# Altium footprint library F4SDR.PcbLib: 69 footprints (part 1 of 5)
Each footprint in its own frame and in the unit in brackets; x right, y up, seen from the top. Pads: shape width x height; smd on the part's side, far side on the other; paste and mask are expansions set on the pad; w line width, h text height; cw(c..) or ccw(c..) is an arc to the next point about the centre after c.
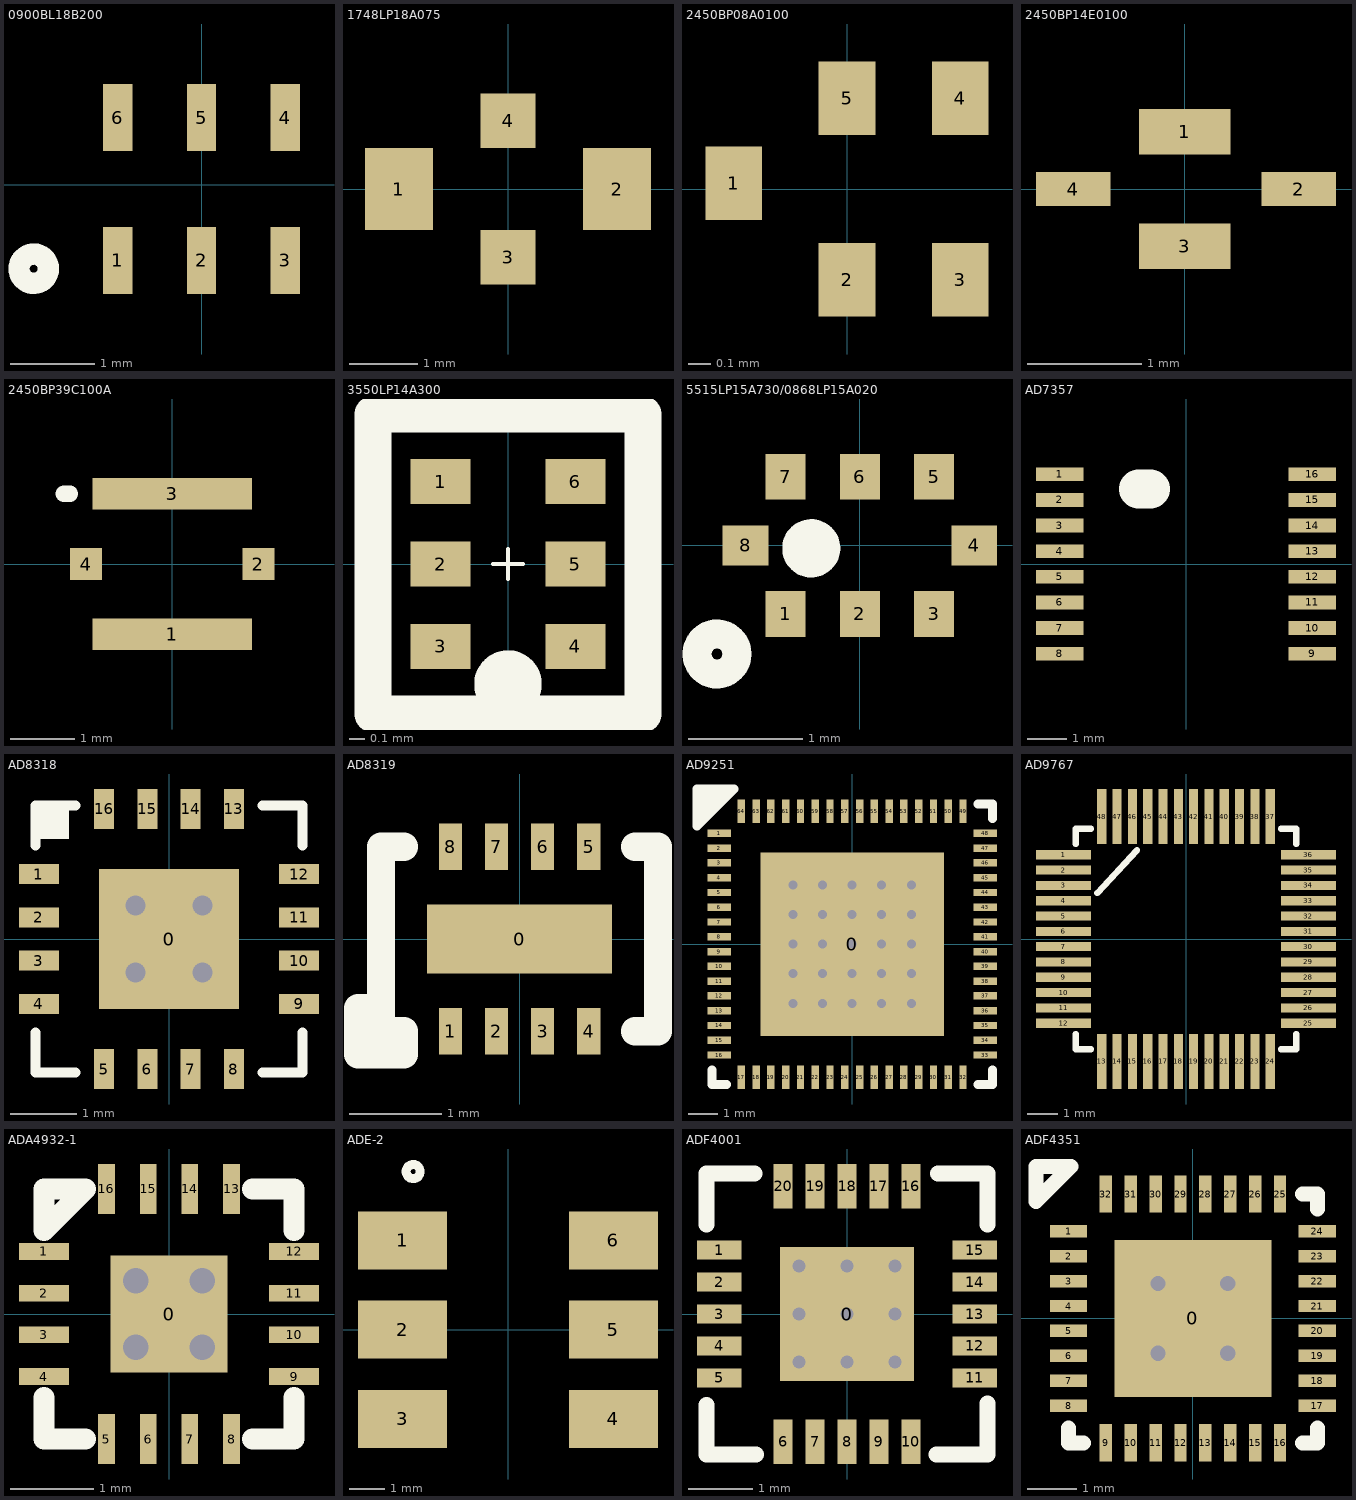
[diagram p0: the footprints below, top view; thin cyan lines are the x and y axes]

## 0900BL18B200 [mm]
pads (6):
  rect 0.35x0.8 smd: 1(-1,-0.9) 2(0,-0.9) 3(1,-0.9) 4(1,0.8) 5(0,0.8) 6(-1,0.8)
Top Overlay:
  circle w0.254: c-2,-1 r0.175
3D body: height 0.85, standoff 0, extent -1.6,-0.8 1.6,0.8

## 1748LP18A075 [mm]
pads (4):
  rect 1x1.2 smd: 1(-1.6,0) 2(1.6,0)
  rect 0.8x0.8 smd: 3(0,-1) 4(0,1)
3D body: height 1, standoff 0, extent -1.6,-0.8 1.6,0.8

## 2450BP08A0100 [mm]
pads (5):
  rect 0.25x0.325 smd: 1(-0.5,0.025) 2(0,-0.4) 3(0.5,-0.4) 4(0.5,0.4) 5(0,0.4)
3D body: height 0.5, standoff 0, extent -0.75,-0.55 0.75,0.55

## 2450BP14E0100 [mm]
pads (4):
  rect 0.8x0.4 smd: 1(0,0.5) 3(0,-0.5)
  rect 0.65x0.3 smd: 2(1,0) 4(-0.975,0)
3D body: height 0.6, standoff 0, extent -0.8,-0.4 0.8,0.4

## 2450BP39C100A [mm]
pads (4):
  rect 2.5x0.5 smd: 1(0,-1.1) 3(0,1.1)
  rect 0.5x0.5 smd: 2(1.35,0) 4(-1.35,0)
Top Overlay:
  lines w0.254: -1.7,1.1 -1.6,1.1
3D body: height 0.9, standoff 0, extent -1.25,-1 1.25,1

## 3550LP14A300 [mm]
height 0.6
pads (6):
  rect 0.4x0.3 smd: 1(-0.45,0.55) 2(-0.45,0) 3(-0.45,-0.55) 4(0.45,-0.55) 5(0.45,0) 6(0.45,0.55)
Top Overlay:
  circle w0.25: c0,-0.8 r0.1
  lines w0.025: -0.1,0 0.1,0 ; 0,-0.1 0,0.1
  lines w0.25: -0.9,-1 -0.9,1 0.9,1 0.9,-1 -0.9,-1
3D body: height 0.6, standoff 0, extent -0.4,-0.8 0.4,0.8

## 5515LP15A730/0868LP15A020 [mm]
pads (8):
  rect 0.35x0.4 smd: 1(-0.65,-0.6) 2(0,-0.6) 3(0.65,-0.6) 5(0.65,0.6) 6(0,0.6) 7(-0.65,0.6)
  rect 0.4x0.35 smd: 4(1,0) 8(-1,0)
Top Overlay:
  circle w0.254: c-1.25,-0.95 r0.175
  circle w0.254: c-0.425,-0.025 r0.127
3D body: height 0.85, standoff 0, extent -1,-0.6 1,0.6

## AD7357 [mm]
pads (16):
  rect 1.2x0.35 smd: 1(-3.2,2.275) 2(-3.2,1.625) 3(-3.2,0.975) 4(-3.2,0.325) 5(-3.2,-0.325) 6(-3.2,-0.975) 7(-3.2,-1.625) 8(-3.2,-2.275) 9(3.2,-2.275) 10(3.2,-1.625) 11(3.2,-0.975) 12(3.2,-0.325) 13(3.2,0.325) 14(3.2,0.975) 15(3.2,1.625) 16(3.2,2.275)
Top Overlay:
  lines w1: -1.2,1.9 -0.9,1.9
3D body: height 1.2, standoff 0, extent -2.2,-2.5 2.2,2.5

## AD8318 [mm]
pads (17):
  rect 2.1x2.1 smd: 0(0,0)
  rect 0.6x0.3 smd: 1(-1.95,0.975) 2(-1.95,0.325) 3(-1.95,-0.325) 4(-1.95,-0.975) 9(1.95,-0.975) 10(1.95,-0.325) 11(1.95,0.325) 12(1.95,0.975)
  rect 0.3x0.6 smd: 5(-0.975,-1.95) 6(-0.325,-1.95) 7(0.325,-1.95) 8(0.975,-1.95) 13(0.975,1.95) 14(0.325,1.95) 15(-0.325,1.95) 16(-0.975,1.95)
via -0.5,-0.5 diameter 0.5 hole 0.3
via 0.5,-0.5 diameter 0.5 hole 0.3
via 0.5,0.5 diameter 0.5 hole 0.3
via -0.5,0.5 diameter 0.5 hole 0.3
Top Overlay:
  rectangle: -2,1.5 -1.5,2
  lines w0.152: -2,-1.4 -2,-2 -1.4,-2 ; -2,1.4 -2,2 -1.4,2 ; 1.4,-2 2,-2 2,-1.4 ; 1.4,2 2,2 2,1.4
3D body: height 0.6, standoff 0, extent -2,-2 2,2

## AD8319 [mm]
pads (9):
  rect 2x0.75 smd: 0(0,0)
  rect 0.25x0.5 smd: 1(-0.75,-1) 2(-0.25,-1) 3(0.25,-1) 4(0.75,-1) 5(0.75,1) 6(0.25,1) 7(-0.25,1) 8(-0.75,1)
Top Overlay:
  lines w0.305: -1.5,-0.75 -1.75,-0.75 -1.75,-1.25 -1.25,-1.25 -1.25,-1 -1.5,-1 -1.5,1 -1.25,1 ; 1.25,-1 1.5,-1 1.5,1 1.25,1
3D body: height 0.75, standoff 0, extent -1.5,-1 1.5,1

## AD9251 [mm]
pads (65):
  rect 6.2x6.2 smd: 0(0,0)
  rect 0.8x0.25 smd: 1(-4.5,3.75) 2(-4.5,3.25) 3(-4.5,2.75) 4(-4.5,2.25) 5(-4.5,1.75) 6(-4.5,1.25) 7(-4.5,0.75) 8(-4.5,0.25) 9(-4.5,-0.25) 10(-4.5,-0.75) 11(-4.5,-1.25) 12(-4.5,-1.75) 13(-4.5,-2.25) 14(-4.5,-2.75) 15(-4.5,-3.25) 16(-4.5,-3.75) 33(4.5,-3.75) 34(4.5,-3.25) 35(4.5,-2.75) 36(4.5,-2.25) 37(4.5,-1.75) 38(4.5,-1.25) 39(4.5,-0.75) 40(4.5,-0.25) 41(4.5,0.25) 42(4.5,0.75) 43(4.5,1.25) 44(4.5,1.75) 45(4.5,2.25) 46(4.5,2.75) 47(4.5,3.25) 48(4.5,3.75)
  rect 0.25x0.8 smd: 17(-3.75,-4.5) 18(-3.25,-4.5) 19(-2.75,-4.5) 20(-2.25,-4.5) 21(-1.75,-4.5) 22(-1.25,-4.5) 23(-0.75,-4.5) 24(-0.25,-4.5) 25(0.25,-4.5) 26(0.75,-4.5) 27(1.25,-4.5) 28(1.75,-4.5) 29(2.25,-4.5) 30(2.75,-4.5) 31(3.25,-4.5) 32(3.75,-4.5) 49(3.75,4.5) 50(3.25,4.5) 51(2.75,4.5) 52(2.25,4.5) 53(1.75,4.5) 54(1.25,4.5) 55(0.75,4.5) 56(0.25,4.5) 57(-0.25,4.5) 58(-0.75,4.5) 59(-1.25,4.5) 60(-1.75,4.5) 61(-2.25,4.5) 62(-2.75,4.5) 63(-3.25,4.5) 64(-3.75,4.5)
via -2,2 diameter 0.508 hole 0.305
via -1,2 diameter 0.508 hole 0.305
via 0,2 diameter 0.508 hole 0.305
via 1,2 diameter 0.508 hole 0.305
via 2,2 diameter 0.508 hole 0.305
via 2,-1 diameter 0.508 hole 0.305
via 2,-2 diameter 0.508 hole 0.305
via 1,-2 diameter 0.508 hole 0.305
via 0,-2 diameter 0.508 hole 0.305
via -1,-2 diameter 0.508 hole 0.305
via -2,-2 diameter 0.508 hole 0.305
via -2,-1 diameter 0.508 hole 0.305
via -1,-1 diameter 0.508 hole 0.305
via 0,-1 diameter 0.508 hole 0.305
via 1,-1 diameter 0.508 hole 0.305
via 1,0 diameter 0.508 hole 0.305
via 2,0 diameter 0.508 hole 0.305
via 2,1 diameter 0.508 hole 0.305
via 1,1 diameter 0.508 hole 0.305
via 0,1 diameter 0.508 hole 0.305
via -1,1 diameter 0.508 hole 0.305
via -2,1 diameter 0.508 hole 0.305
via -2,0 diameter 0.508 hole 0.305
via -1,0 diameter 0.508 hole 0.305
via 0,0 diameter 0.508 hole 0.305
Top Overlay:
  region: -5.25,5.25 -4,5.25 -5.25,4
  lines w0.305: -4.75,-4.25 -4.75,-4.75 -4.25,-4.75 ; 4.25,-4.75 4.75,-4.75 4.75,-4.25 ; 4.25,4.75 4.75,4.75 4.75,4.25 ; -5.25,4 -5.25,5.25 -4,5.25 -5.25,4
3D body: height 0.85, standoff 0, extent -4.5,-4.5 4.5,4.5

## AD9767 [mm]
pads (48):
  rect 1.8x0.3 smd: 1(-4,2.75) 2(-4,2.25) 3(-4,1.75) 4(-4,1.25) 5(-4,0.75) 6(-4,0.25) 7(-4,-0.25) 8(-4,-0.75) 9(-4,-1.25) 10(-4,-1.75) 11(-4,-2.25) 12(-4,-2.75) 25(4,-2.75) 26(4,-2.25) 27(4,-1.75) 28(4,-1.25) 29(4,-0.75) 30(4,-0.25) 31(4,0.25) 32(4,0.75) 33(4,1.25) 34(4,1.75) 35(4,2.25) 36(4,2.75)
  rect 0.3x1.8 smd: 13(-2.75,-4) 14(-2.25,-4) 15(-1.75,-4) 16(-1.25,-4) 17(-0.75,-4) 18(-0.25,-4) 19(0.25,-4) 20(0.75,-4) 21(1.25,-4) 22(1.75,-4) 23(2.25,-4) 24(2.75,-4) 37(2.75,4) 38(2.25,4) 39(1.75,4) 40(1.25,4) 41(0.75,4) 42(0.25,4) 43(-0.25,4) 44(-0.75,4) 45(-1.25,4) 46(-1.75,4) 47(-2.25,4) 48(-2.75,4)
Top Overlay:
  lines w0.203: -3.6,-3.1 -3.6,-3.6 -3.1,-3.6 ; -3.6,3.1 -3.6,3.6 -3.1,3.6 ; -2.9,1.5 -1.6,2.9 ; 3.1,-3.6 3.6,-3.6 3.6,-3.1 ; 3.1,3.6 3.6,3.6 3.6,3.1

## ADA4932-1 [mm]
pads (17):
  rect 1.4x1.4 smd: 0(0,0)
  rect 0.6x0.2 smd: 1(-1.5,0.75) 2(-1.5,0.25) 3(-1.5,-0.25) 4(-1.5,-0.75) 9(1.5,-0.75) 10(1.5,-0.25) 11(1.5,0.25) 12(1.5,0.75)
  rect 0.2x0.6 smd: 5(-0.75,-1.5) 6(-0.25,-1.5) 7(0.25,-1.5) 8(0.75,-1.5) 13(0.75,1.5) 14(0.25,1.5) 15(-0.25,1.5) 16(-0.75,1.5)
via -0.4,0.4 diameter 0.508 hole 0.305
via 0.4,0.4 diameter 0.508 hole 0.305
via 0.4,-0.4 diameter 0.508 hole 0.305
via -0.4,-0.4 diameter 0.508 hole 0.305
Top Overlay:
  lines w0.254: -1.5,-1 -1.5,-1.5 -1,-1.5 ; 1,-1.5 1.5,-1.5 1.5,-1 ; 1,1.5 1.5,1.5 1.5,1 ; -1.5,1 -1,1.5 -1.5,1.5 -1.5,1
3D body: height 0.7, standoff 0, extent -1.5,-1.5 1.5,1.5

## ADE-2 [mm]
pads (6):
  rect 2.54x1.65 smd: 1(-3,2.54) 2(-3,0) 3(-3,-2.54) 4(3,-2.54) 5(3,0) 6(3,2.54)
Top Overlay:
  circle w0.254: c-2.7,4.5 r0.2
3D body: height 2.85, standoff 0, extent -3.6,-4 3.6,4

## ADF4001 [mm]
pads (21):
  rect 2.1x2.1 smd: 0(0,0)
  rect 0.7x0.3 smd: 1(-2,1) 2(-2,0.5) 3(-2,0) 4(-2,-0.5) 5(-2,-1) 11(2,-1) 12(2,-0.5) 13(2,0) 14(2,0.5) 15(2,1)
  rect 0.3x0.7 smd: 6(-1,-2) 7(-0.5,-2) 8(0,-2) 9(0.5,-2) 10(1,-2) 16(1,2) 17(0.5,2) 18(0,2) 19(-0.5,2) 20(-1,2)
via 0,0 diameter 0.35 hole 0.2
via 0.75,0 diameter 0.35 hole 0.2
via 0.75,0.75 diameter 0.35 hole 0.2
via 0,0.75 diameter 0.35 hole 0.2
via -0.75,0.75 diameter 0.35 hole 0.2
via -0.75,0 diameter 0.35 hole 0.2
via -0.75,-0.75 diameter 0.35 hole 0.2
via 0,-0.75 diameter 0.35 hole 0.2
via 0.75,-0.75 diameter 0.35 hole 0.2
Top Overlay:
  lines w0.254: -2.2,-1.425 -2.2,-2.2 -1.425,-2.2 ; -2.2,1.4 -2.2,2.2 -1.45,2.2 ; 1.4,-2.2 2.2,-2.2 2.2,-1.4 ; 1.425,2.2 2.2,2.2 2.2,1.4
  text "." at -1.9,1.575 h2
3D body: height 0.65, standoff 0, extent -2,-2 2,2

## ADF4351 [mm]
pads (33):
  rect 3.15x3.15 smd: 0(0,0)
  rect 0.75x0.25 smd: 1(-2.5,1.75) 2(-2.5,1.25) 3(-2.5,0.75) 4(-2.5,0.25) 5(-2.5,-0.25) 6(-2.5,-0.75) 7(-2.5,-1.25) 8(-2.5,-1.75) 17(2.5,-1.75) 18(2.5,-1.25) 19(2.5,-0.75) 20(2.5,-0.25) 21(2.5,0.25) 22(2.5,0.75) 23(2.5,1.25) 24(2.5,1.75)
  rect 0.25x0.75 smd: 9(-1.75,-2.5) 10(-1.25,-2.5) 11(-0.75,-2.5) 12(-0.25,-2.5) 13(0.25,-2.5) 14(0.75,-2.5) 15(1.25,-2.5) 16(1.75,-2.5) 25(1.75,2.5) 26(1.25,2.5) 27(0.75,2.5) 28(0.25,2.5) 29(-0.25,2.5) 30(-0.75,2.5) 31(-1.25,2.5) 32(-1.75,2.5)
via -0.7,0.7 diameter 0.508 hole 0.305
via 0.7,0.7 diameter 0.508 hole 0.305
via 0.7,-0.7 diameter 0.508 hole 0.305
via -0.7,-0.7 diameter 0.508 hole 0.305
Top Overlay:
  lines w0.3: -2.5,-2.2 -2.5,-2.5 -2.2,-2.5 ; 2.2,-2.5 2.5,-2.5 2.5,-2.2 ; 2.2,2.5 2.5,2.5 2.5,2.2 ; -3.154,2.354 -2.454,3.054 -3.154,3.054 -3.154,2.354
3D body: height 0.7, standoff 0, extent -2.5,-2.5 2.5,2.5